# EAGLE library part TPS62175DQCR (library Deegou_IC)
28V, 0.5A Step-Down Converter with SNOOZE Mode Source: Datasheet <http://www.ti.com/lit/gpn/tps62175>
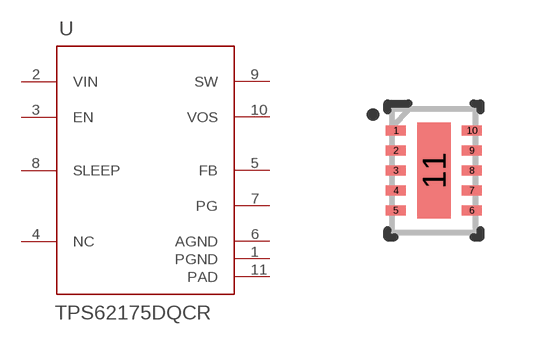
[diagram p113: symbol with the pads of DQC0010A; footprint DQC0010A]

Designator prefix U

## TPS62175DQCR (MANUFACTURER: Texas Instruments; PARTNUMBER: TPS62175DQCR; REFDES: RefDes; TYPE: TYPE; VALUE: Value)  [DQC0010A]
1  PGND  pwr
2  VIN  pwr
3  EN  in
4  NC  pas
5  FB  in
6  AGND  pwr
7  PG  out
8  SLEEP  in
9  SW  pwr
10  VOS  in
11  PAD  pwr

## Footprint DQC0010A (pad centres in mm)
smd 0.5 x 0.25: 1 -0.95,1; 2 -0.95,0.5; 3 -0.95,0; 4 -0.95,-0.5; 5 -0.95,-1; 6 0.95,-1; 7 0.95,-0.5; 8 0.95,0; 9 0.95,0.5; 10 0.95,1
smd 0.84 x 2.4: 11 0,0